# EAGLE library part EVQ-WKA001 (library EVQ-WKA001)
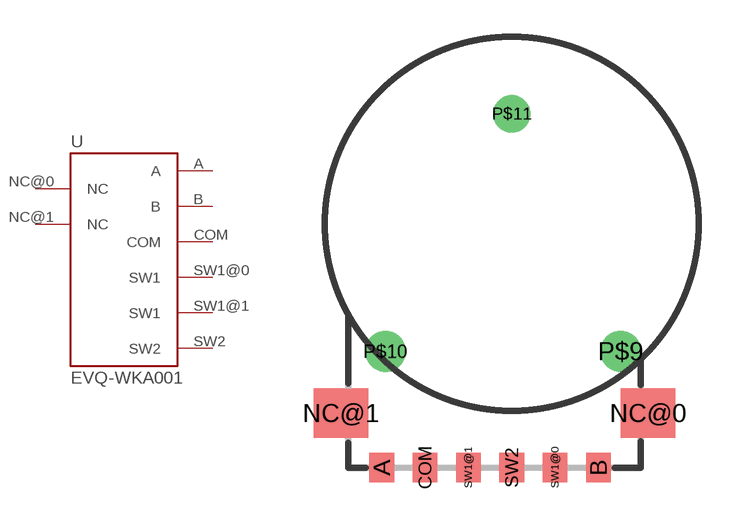
[diagram p0: symbol with the pads of EVQ-WKA001; footprint EVQ-WKA001]

Designator prefix -

## EVQ-WKA001  [EVQ-WKA001]
A  A
B  B
COM  COM
NC@0  NC  nc
NC@1  NC  nc
SW1@0  SW1
SW1@1  SW1
SW2  SW2

## Footprint EVQ-WKA001 (pad centres in mm)
smd 1 x 1.2: A -5.25,-4.7; B 3.5,-4.7; COM -3.5,-4.7; SW1@0 1.75,-4.7; SW1@1 -1.75,-4.7; SW2 0,-4.7
smd 2.2 x 2: NC@0 5.5,-2.5; NC@1 -6.9,-2.5
drill 1.1: P$9 4.4,0; P$10 -5.1,0
drill 1: P$11 0,9.6